# Altium footprint library TP_TE_Connectivity_5-146280-1_1POS.PcbLib: 1 footprints
Each footprint in its own frame and in the unit in brackets; x right, y up, seen from the top. Pads: shape width x height; smd on the part's side, far side on the other; paste and mask are expansions set on the pad; w line width, h text height; cw(c..) or ccw(c..) is an arc to the next point about the centre after c.
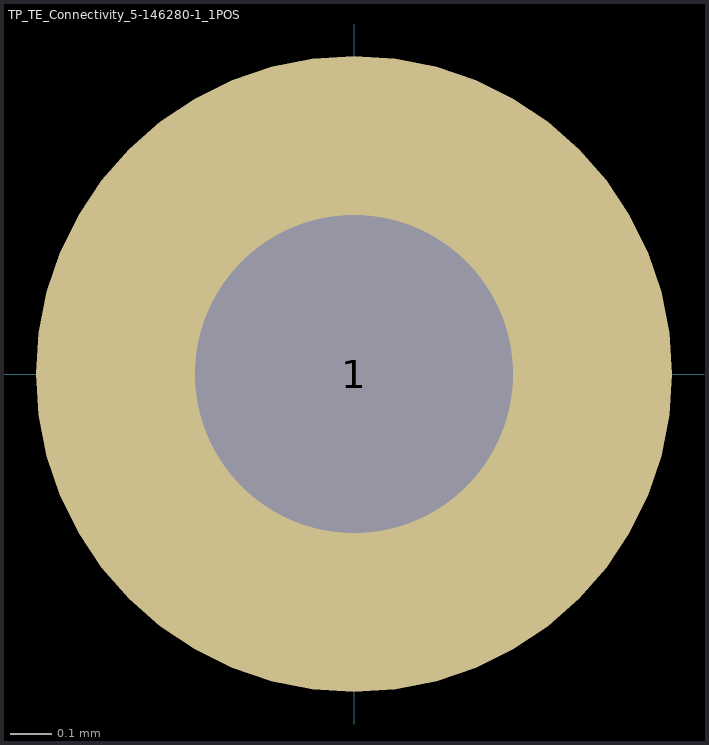
[diagram p0: the footprint, top view; thin cyan lines are the x and y axes]

## TP_TE_Connectivity_5-146280-1_1POS [mil]
pads (1):
  round 60 hole 30: 1(0,0)